# Altium schematic symbol library MAX16915.SchLib: 2 symbols
Pins are listed as number, name and electrical type; pins without a type are passive.

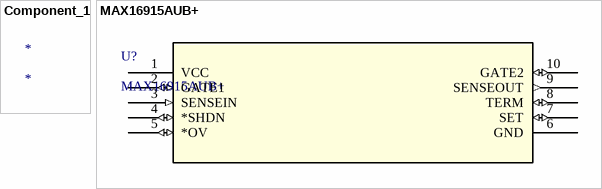
[diagram p0: symbols Component_1 to MAX16915AUB+]

## Component_1
designator *

## MAX16915AUB+
designator U?
IC BATT PROTECTION 10UMAX; Vendor: Maxim Integrated Products; Built_By: EMA_UL_Team; SourceLibrary: Maxim_2014-04-30_1; Manufacturer_Part_Number: MAX16915AUB+; Revision: 2; Copyright: Copyright (C) 2021 Accelerated Designs. All rights reserved; RefDes: RefDes; Type: DEV; Cost: 3.09; Website: https://www.digikey.co.nz/product-detail/en/maxim-integrated/MAX16915AUB/MAX16915AUB-ND/3975854
footprint 21-0061L_MXM
pins: 1 VCC (power), 2 GATE1 (io), 3 SENSEIN (in), 4 *SHDN (io), 5 *OV (io), 6 GND (power), 7 SET (io), 8 TERM (io), 9 SENSEOUT (out), 10 GATE2 (io)